# Altium footprint library Passive.PcbLib: 87 footprints (part 4 of 6)
Each footprint in its own frame and in the unit in brackets; x right, y up, seen from the top. Pads: shape width x height; smd on the part's side, far side on the other; paste and mask are expansions set on the pad; w line width, h text height; cw(c..) or ccw(c..) is an arc to the next point about the centre after c.
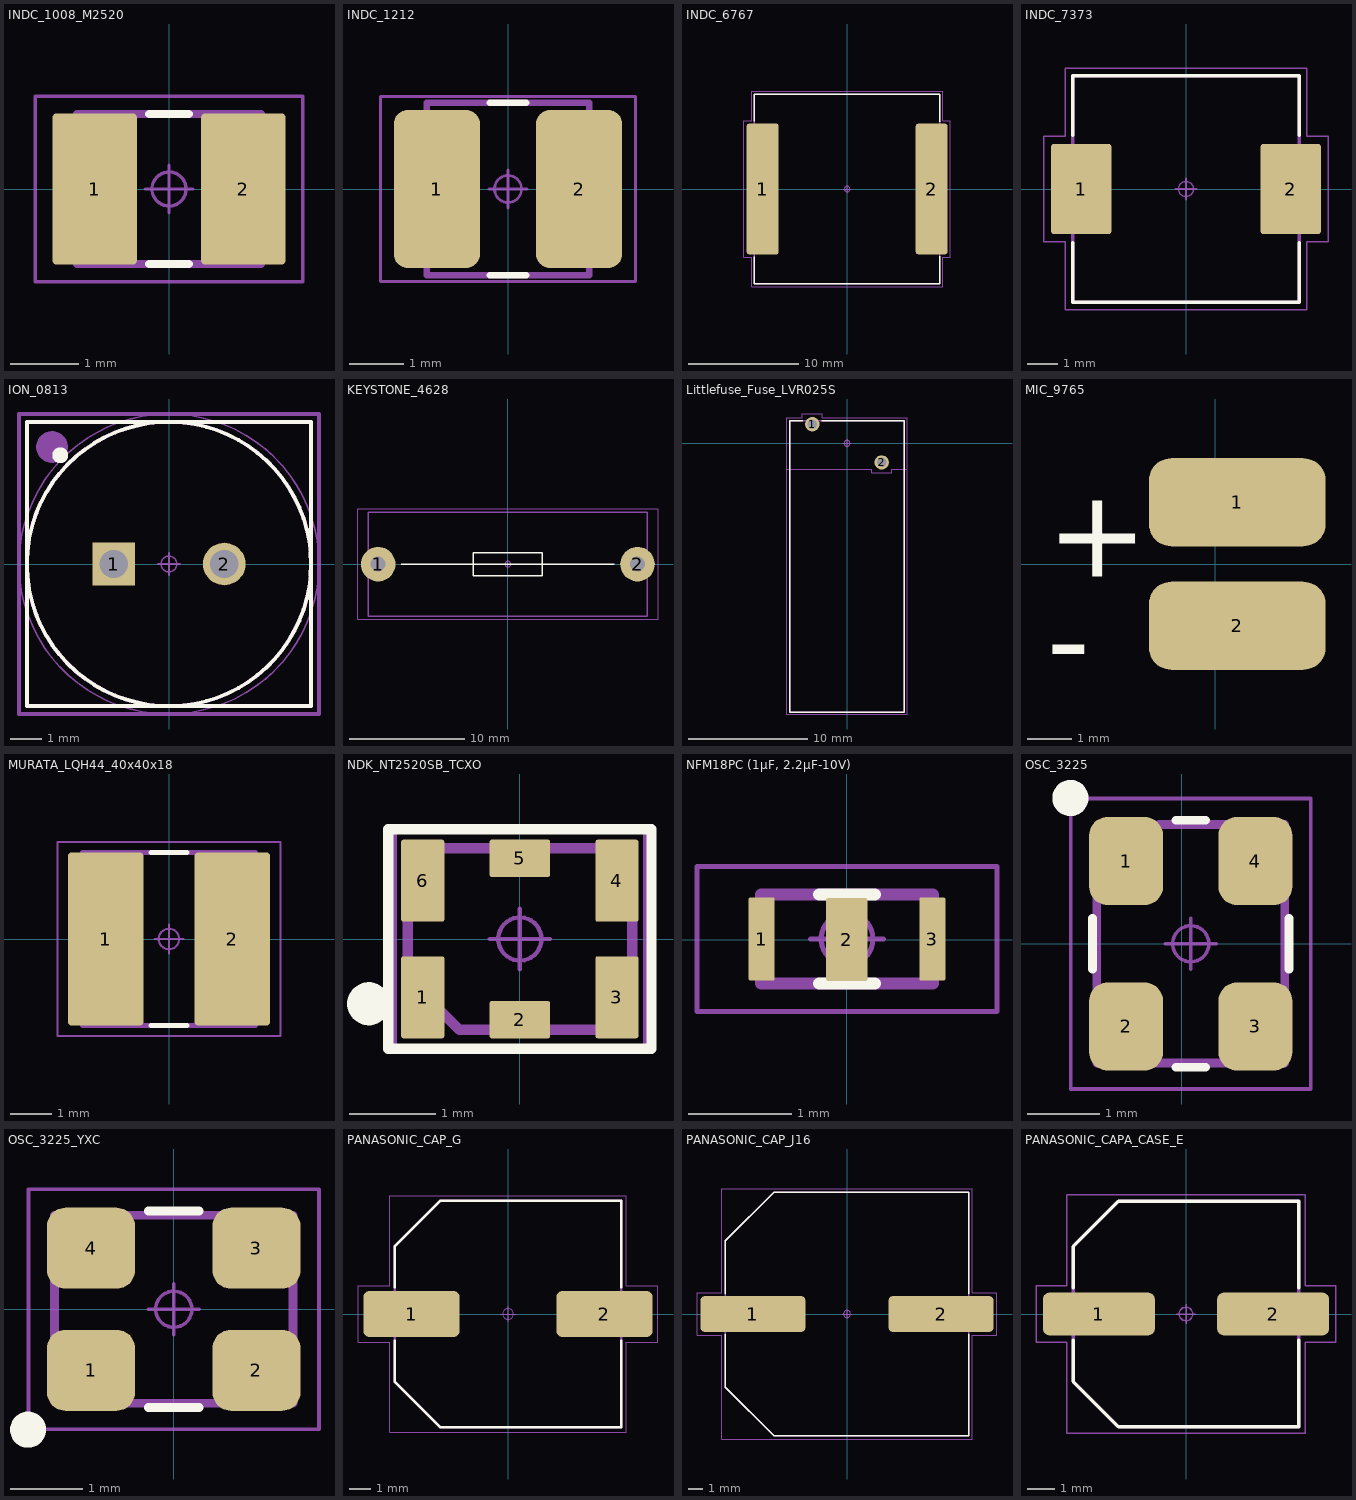
[diagram p3: the footprints below, top view; thin cyan lines are the x and y axes]

## INDC_1008_M2520 [mm] "Inductor, Chip; 2.50 mm L X 2.00 mm W X 1.20 mm H body"
pads (2):
  rrect10% 1.24x2.22 smd: 1(-1.09,0) 2(1.09,0)
Top Overlay:
  lines w0.12: -0.29,-1.1 0.29,-1.1 ; -0.29,1.1 0.29,1.1
Mechanical 11:
  lines w0.12: -1.35,-1.1 -1.35,1.1 1.35,1.1 1.35,-1.1 -1.35,-1.1
  text ".Designator" at -1.822,-0.223 h1
Mechanical 15:
  circle w0.05: c0,0 r0.25
  lines w0.05: -0.35,0 0.35,0 ; 0,-0.35 0,0.35 ; -1.96,-1.36 -1.96,1.36 1.96,1.36 1.96,-1.36 -1.96,-1.36
3D body "INDC_1008-2520.STEP": height 1.2, standoff 0, extent -1.35,-1.1 1.35,1.1

## INDC_1212 [mm] "Inductor, Molded Body; 3.00 mm L X 3.00 mm W X 1.50 mm H body"
pads (2):
  rrect31% 1.59x2.92 smd: 1(-1.315,0) 2(1.315,0)
Top Overlay:
  lines w0.12: -0.34,-1.6 0.34,-1.6 ; -0.34,1.6 0.34,1.6
Mechanical 11:
  lines w0.12: -1.5,-1.6 -1.5,1.6 1.5,1.6 1.5,-1.6 -1.5,-1.6
  text ".Designator" at -2.126,-0.226 h1
Mechanical 15:
  circle w0.05: c0,0 r0.25
  lines w0.05: -0.35,0 0.35,0 ; 0,-0.35 0,0.35 ; -2.36,-1.71 2.36,-1.71 2.36,1.71 -2.36,1.71 -2.36,-1.71
3D body "INDM300X300X150L70X280.STEP": height 1.5, standoff 0, extent -1.6,-1.6 1.6,1.6

## INDC_6767 [mm]
pads (2):
  rrect17% 2.91x11.94 smd: 1(-7.695,0)
  rrect17% 2.91x11.89 smd: 2(7.695,0)
Top Overlay:
  lines w0.12: -8.45,-6.15 -8.45,-8.64 8.45,-8.64 8.45,-6.125 ; -8.45,6.15 -8.45,8.64 8.45,8.64 8.45,6.125
Mechanical 11:
  lines w0.12: -8.45,-8.64 -8.45,8.64 8.45,8.64 8.45,-8.64 -8.45,-8.64
  text ".Designator" at -2.253,-0.226 h1
Mechanical 15:
  circle w0.05: c0,0 r0.25
  lines w0.05: -0.35,0 0.35,0 ; 0,-0.35 0,0.35 ; -9.4,-6.22 -9.4,6.22 -8.7,6.22 -8.7,8.89 8.7,8.89 8.7,6.195 9.4,6.195 9.4,-6.195 8.7,-6.195 8.7,-8.89 -8.7,-8.89 -8.7,-6.22 -9.4,-6.22
3D body "INDM1715X1715X700L211X1194.STEP": height 7, standoff 0, extent -8.575,-8.575 8.575,8.575

## INDC_7373 [mm] "Inductor, Molded Body; 7.50 mm L X 7.50 mm W X 4.50 mm H body"
pads (2):
  rrect10% 2x3 smd: 1(-3.475,0) 2(3.475,0)
Top Overlay:
  lines w0.12: -3.75,-1.778 -3.75,-3.75 3.75,-3.75 3.75,-1.778 ; -3.75,1.778 -3.75,3.75 3.75,3.75 3.75,1.778
Mechanical 11:
  lines w0.12: -3.75,-3.75 -3.75,3.75 3.75,3.75 3.75,-3.75 -3.75,-3.75
  text ".Designator" at -2.253,-0.226 h1
Mechanical 15:
  circle w0.05: c0,0 r0.25
  lines w0.05: -0.35,0 0.35,0 ; 0,-0.35 0,0.35 ; -4.725,-1.75 -4.725,1.75 -4,1.75 -4,4 4,4 4,1.75 4.725,1.75 4.725,-1.75 4,-1.75 4,-4 -4,-4 -4,-1.75 -4.725,-1.75
3D body "INDC_7373.STEP": height 4.5, standoff 0, extent -3.75,-3.75 3.75,3.75

## ION_0813 [mm] "Capacitor/Ionistor, Polarized, Radial (Electrolytic); 3.50 mm C X 9.00 mm Dia X 14.50 mm H body"
pads (2):
  rect 1.35x1.35 hole 0.9 paste-2539.97: 1(-1.75,0)
  round 1.35 hole 0.9 paste-2539.97: 2(1.75,0)
Top Overlay:
  circle w0.12: c0,0 r4.5
  circle w0.25: c-3.444,3.444 r0.125
  lines w0.12: -4.5,-4.5 -4.5,4.5 4.5,4.5 4.5,-4.5 -4.5,-4.5
Mechanical 11:
  circle w0.12: c0,0 r4.5
  circle w0.5: c-3.705,3.705 r0.25
  lines w0.1: -4.5,-4.5 4.5,-4.5 ; -4.5,4.5 4.5,4.5
  text ".Designator" at -2.253,-0.226 h1
Mechanical 15:
  circle w0.05: c0,0 r4.75
  circle w0.05: c0,0 r0.25
  lines w0.05: -0.35,0 0.35,0 ; 0,-0.35 0,0.35
  lines w0.12: -4.75,-4.75 -4.75,4.75 4.75,4.75 4.75,-4.75 -4.75,-4.75
3D body "CAPPRD350W60D900H1450.STEP": height 14.51, standoff -2, extent -4.5,-4.5 4.51,4.5

## KEYSTONE_4628 [mm] "Fuse cartridge 5x20 TH"
pads (2):
  round 3 hole 1.3 mask+0.05: 1(-11.25,0) 2(11.25,0)
Top Overlay:
  lines w0.12: -9.25,0 9.25,0 ; -3,-1 3,-1 3,1 -3,1 -3,0 -3,-1
Mechanical 11:
  lines w0.12: -12.103,-4.5 -12.103,4.492 12.103,4.492 12.103,-4.5 -12.103,-4.5
  text ".Designator" at -6.759,-0.678 h3
Mechanical 15:
  circle w0.05: c0,0 r0.25
  lines w0.05: -0.35,0 0.35,0 ; 0,-0.35 0,0.35 ; -13,-4.775 -13,4.8 13.025,4.8 13.025,0 13.025,-4.775 -13,-4.775
3D body "keystone-PN4628.STEP": height 11.2, standoff -4.75, extent -12.103,-4.5 12.103,4.492

## Littlefuse_Fuse_LVR025S [mm] "Littlefuse_Fuse_LVR025S"
pads (2):
  round 1.2 hole 0.8 paste-2539.97: 1(-2.9,1.6) 2(2.9,-1.6)
Top Overlay:
  lines w0.12: -3.68,1.9 -4.8,1.9 -4.8,-22.5 4.8,-22.5 4.8,1.9 -2.12,1.9
Mechanical 11:
  lines w0.12: -4.8,-22.479 4.8,-22.479 4.8,1.9 -4.8,1.9 -4.8,-22.479
  text ".Designator" at -2.159,-0.192 h1
Mechanical 15:
  circle w0.05: c0,0 r0.25
  lines w0.05: -0.35,0 0.35,0 ; 0,-0.35 0,0.35 ; -5.05,-2.15 -5.05,2.15 -3.75,2.15 -3.75,2.45 -2.05,2.45 -2.05,2.15 5.05,2.15 5.05,-2.15 ; -5.05,-2.15 2.05,-2.15 2.05,-2.45 3.75,-2.45 3.75,-2.15 5.05,-2.15 ; -5.05,-2.15 -5.05,-22.636 5.05,-22.636 5.05,-2.15
3D body "FUSRR580W55L960T380H1740.STEP": height 4, standoff 0, extent -4.9,-22.5 4.9,-3

## MIC_9765 [mm] "Microphone diameter 9.7mm height 6.5mm pitch 2.8mm"
pads (2):
  rrect50% 4x2 smd: 1(0.5,1.4) 2(0.5,-1.4)
Top Overlay:
  text "+" at -3.824,-0.284 h2
  text "-" at -3.824,-2.697 h2
3D body "Микрофон.stp": height 5.15, standoff -4.55, extent 0,-4.85 9.5,4.85

## MURATA_LQH44_40x40x18 [mm] "Inductor, Chip; 4.00 mm L X 4.00 mm W X 1.80 mm H body"
pads (2):
  rrect10% 1.84x4.22 smd: 1(-1.54,0) 2(1.54,0)
Top Overlay:
  lines w0.12: -0.44,-2.1 0.44,-2.1 ; -0.44,2.1 0.44,2.1
Mechanical 11:
  lines w0.12: -2.1,-2.1 -2.1,2.1 2.1,2.1 2.1,-2.1 -2.1,-2.1
  text ".Designator" at -2.253,-0.226 h1
Mechanical 15:
  circle w0.05: c0,0 r0.25
  lines w0.05: -0.35,0 0.35,0 ; 0,-0.35 0,0.35 ; -2.71,-2.36 -2.71,2.36 2.71,2.36 2.71,-2.36 -2.71,-2.36
3D body "MURATA_LQH44_40x40x18.STEP": height 1.8, standoff 0, extent -2.1,-2.1 2.1,2.1

## NDK_NT2520SB_TCXO [mm] "Crystal, Dual Flat No-Lead (DFN 4 Pins), 1.65 mm pitch; 6 pin, 2.50 mm L X 2.00 mm W X 0.80 mm H body"
pads (6):
  rrect10% 0.5x0.95 smd: 1(-1.125,-0.675) 3(1.125,-0.675) 4(1.125,0.675) 6(-1.125,0.675)
  rrect10% 0.7x0.43 smd: 2(0,-0.935) 5(0,0.935)
Top Overlay:
  circle w0.25: c-1.75,-0.75 r0.125
  lines w0.12: -1.524,-1.27 1.524,-1.27 1.524,1.27 -1.524,1.27 -1.524,-1.27
Mechanical 11:
  lines w0.12: -1.3,-0.45 -1.3,1.05 1.3,1.05 1.3,-1.05 -0.7,-1.05 -1.3,-0.45
  text ".Designator" at -2.253,-0.226 h1
Mechanical 15:
  circle w0.05: c0,0 r0.25
  lines w0.05: -0.35,0 0.35,0 ; 0,-0.35 0,0.35 ; -1.45,-1.27 1.45,-1.27 1.45,1.27 -1.45,1.27 -1.45,-1.27
3D body "User Library-ABM10_Xtal.step": height 0.7, standoff -0.01, extent -1.3,-1.05 1.3,1.05

## NFM18PC (1µF, 2.2µF-10V) [mm] "CAP (3 Terminals)"
pads (3):
  rrect10% 0.25x0.8 smd: 1(-0.823,0.005) 3(0.827,0.005)
  rrect10% 0.4x0.8 smd: 2(0,0)
Top Overlay:
  lines w0.12: -0.268,-0.425 0.272,-0.425 ; -0.268,0.435 0.272,0.435
Mechanical 11:
  lines w0.12: -0.828,-0.425 -0.828,0.435 0.832,0.435 0.832,-0.425 -0.828,-0.425
  text ".Designator" at -1.82,-0.218 h1
Mechanical 15:
  circle w0.05: c0.002,0.005 r0.25
  lines w0.05: -0.348,0.005 0.352,0.005 ; 0.002,-0.345 0.002,0.355 ; -1.448,-0.695 -1.448,0.705 1.452,0.705 1.452,-0.695 -1.448,-0.695
3D body "CAPC_0603_M1608.STEP": height 0.85, standoff 0, extent -0.823,-0.42 0.827,0.43

## OSC_3225 [mm] "SMD Crystal Resonator 3225 size"
pads (4):
  rrect49% 1.02x1.22 smd: 1(-0.768,1.145) 2(-0.768,-1.145) 3(1.022,-1.145) 4(1.022,1.145)
Top Overlay:
  circle w0.25: c-1.54,2.017 r0.125
  lines w0.12: -1.233,-0.355 -1.233,0.355 ; -0.078,-1.71 0.332,-1.71 ; -0.078,1.71 0.332,1.71 ; 1.487,-0.355 1.487,0.355
Mechanical 11:
  lines w0.12: -1.173,-1.65 -1.173,0.783 -0.306,1.65 1.427,1.65 1.427,-1.65 -1.173,-1.65
  text ".Designator" at -2.032,-0.254 h1
Mechanical 15:
  circle w0.05: c0.127,0 r0.25
  lines w0.05: -0.223,0 0.477,0 ; 0.127,-0.35 0.127,0.35 ; -1.533,-2.01 -1.533,2.01 1.787,2.01 1.787,-2.01 -1.533,-2.01
3D body "OSCCC320X250X90L80X100.STEP": height 0.9, standoff 0, extent -1.173,-1.65 1.427,1.65

## OSC_3225_YXC [mm] "Oscillator, Corner Concave; 3.20 mm L X 2.50 mm W X 0.80 mm H body"
pads (4):
  rrect45% 1.22x1.12 smd: 1(-1.145,-0.845) 2(1.145,-0.845) 3(1.145,0.845) 4(-1.145,0.845)
Top Overlay:
  circle w0.25: c-2.017,-1.667 r0.125
  lines w0.12: -0.355,-1.36 0.355,-1.36 ; -0.355,1.36 0.355,1.36
Mechanical 11:
  lines w0.12: -1.65,-0.433 -0.783,-1.3 1.65,-1.3 1.65,1.3 -1.65,1.3 -1.65,-0.433
  text ".Designator" at 2.062,0.219 h1
Mechanical 15:
  circle w0.05: c0,0 r0.25
  lines w0.05: -0.35,0 0.35,0 ; 0,-0.35 0,0.35 ; -2.01,-1.66 2.01,-1.66 2.01,1.66 -2.01,1.66 -2.01,-1.66
3D body "OSCCC320X250X80L90X100.STEP": height 0.8, standoff 0, extent -1.65,-1.3 1.65,1.3

## PANASONIC_CAP_G [mm] "Capacitor, Aluminum Electrolytic; 10.25 mm L X 10.25 mm W X 10.50 mm H body"
pads (2):
  rrect24% 4.47x2.12 smd: 1(-4.48,0) 2(4.48,0)
Top Overlay:
  lines w0.12: -5.25,-1.24 -5.25,-3.15 -3.15,-5.25 5.25,-5.25 5.25,-1.24 ; -5.25,1.24 -5.25,3.15 -3.15,5.25 5.25,5.25 5.25,1.24
Mechanical 11:
  lines w0.12: -5.25,-3.15 -5.25,3.15 -3.15,5.25 5.25,5.25 5.25,-5.25 -3.15,-5.25 -5.25,-3.15
  text ".Designator" at -2.253,-0.226 h1
Mechanical 15:
  circle w0.05: c0,0 r0.25
  lines w0.05: -0.35,0 0.35,0 ; 0,-0.35 0,0.35 ; -6.965,-1.31 -5.5,-1.31 -5.5,-5.5 5.5,-5.5 5.5,-1.31 6.965,-1.31 6.965,1.31 5.5,1.31 5.5,5.5 -5.5,5.5 -5.5,1.31 -6.965,1.31 -6.965,-1.31
3D body "CAPAE1025X1050D1190L350X90.STEP": height 10.5, standoff 0, extent -5.8,-5.125 5.8,5.125

## PANASONIC_CAP_J16 [mm] "Capacitor, Aluminum Electrolytic; 17.00 mm L X 17.00 mm W X 17.00 mm H body"
pads (2):
  rrect20% 7.41x2.51 smd: 1(-6.65,0) 2(6.65,0)
Top Overlay:
  lines w0.12: -8.6,-1.44 -8.6,-5.17 -5.16,-8.605 8.6,-8.605 8.6,-1.44 ; -8.6,1.44 -8.6,5.17 -5.16,8.605 8.6,8.605 8.6,1.44
Mechanical 11:
  lines w0.12: -8.6,-5.16 -8.6,5.16 -5.16,8.6 8.6,8.6 8.6,-8.6 -5.16,-8.6 -8.6,-5.16
  text ".Designator" at -2.253,-0.226 h1
Mechanical 15:
  circle w0.05: c0,0 r0.25
  lines w0.05: -0.35,0 0.35,0 ; 0,-0.35 0,0.35 ; -10.605,-1.505 -8.85,-1.505 -8.85,-8.85 8.85,-8.85 8.85,-1.505 10.605,-1.505 10.605,1.505 8.85,1.505 8.85,8.85 -8.85,8.85 -8.85,1.505 -10.605,1.505 -10.605,-1.505
3D body "CAPAE1700X1700D1900L550X120.STEP": height 17, standoff 0, extent -8.5,-8.5 8.5,8.5

## PANASONIC_CAPA_CASE_E [mm]
pads (2):
  rrect32% 4.13x1.58 smd: 1(-3.21,0) 2(3.21,0)
Top Overlay:
  lines w0.12: -4.15,-0.97 -4.15,-2.49 -2.49,-4.15 4.15,-4.15 4.15,-0.97 ; -4.15,0.97 -4.15,2.49 -2.49,4.15 4.15,4.15 4.15,0.97
Mechanical 11:
  lines w0.12: -4.15,-2.49 -4.15,2.49 -2.49,4.15 4.15,4.15 4.15,-4.15 -2.49,-4.15 -4.15,-2.49
  text ".Designator" at -2.253,-0.192 h1
Mechanical 15:
  circle w0.05: c0,0 r0.25
  lines w0.05: -0.35,0 0.35,0 ; 0,-0.35 0,0.35 ; -5.525,-1.04 -4.4,-1.04 -4.4,-4.4 4.4,-4.4 4.4,-1.04 5.525,-1.04 5.525,1.04 4.4,1.04 4.4,4.4 -4.4,4.4 -4.4,1.04 -5.525,1.04 -5.525,-1.04
3D body "CAPAE830X620D945L340X65.STEP": height 6.2, standoff 0, extent -4.5,-4.15 4.5,4.15